# Altium schematic symbol library ESDALC6V1-1U2.SchLib: 1 symbol
Pins are listed as number, name and electrical type; pins without a type are passive.

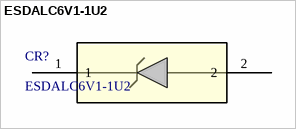
[diagram p0: symbol ESDALC6V1-1U2]

## ESDALC6V1-1U2
designator CR?
Single-line low capacitance Transil&#8482; for ESD protection; Manufacturer_Name: STMicroelectronics; Copyright: Copyright (C) 2025 Ultra Librarian. All rights reserved.; Manufacturer_Part_Number: ESDALC6V1-1U2; RefDes: RefDes; Type: Type
footprint DIODE_ESDALC6V1-1U2_STM
pins: 1, 2